# Altium integrated library Linear Technology Power Management LDO Linear Regulators.IntLib: 2339 symbols (part 107 of 131)
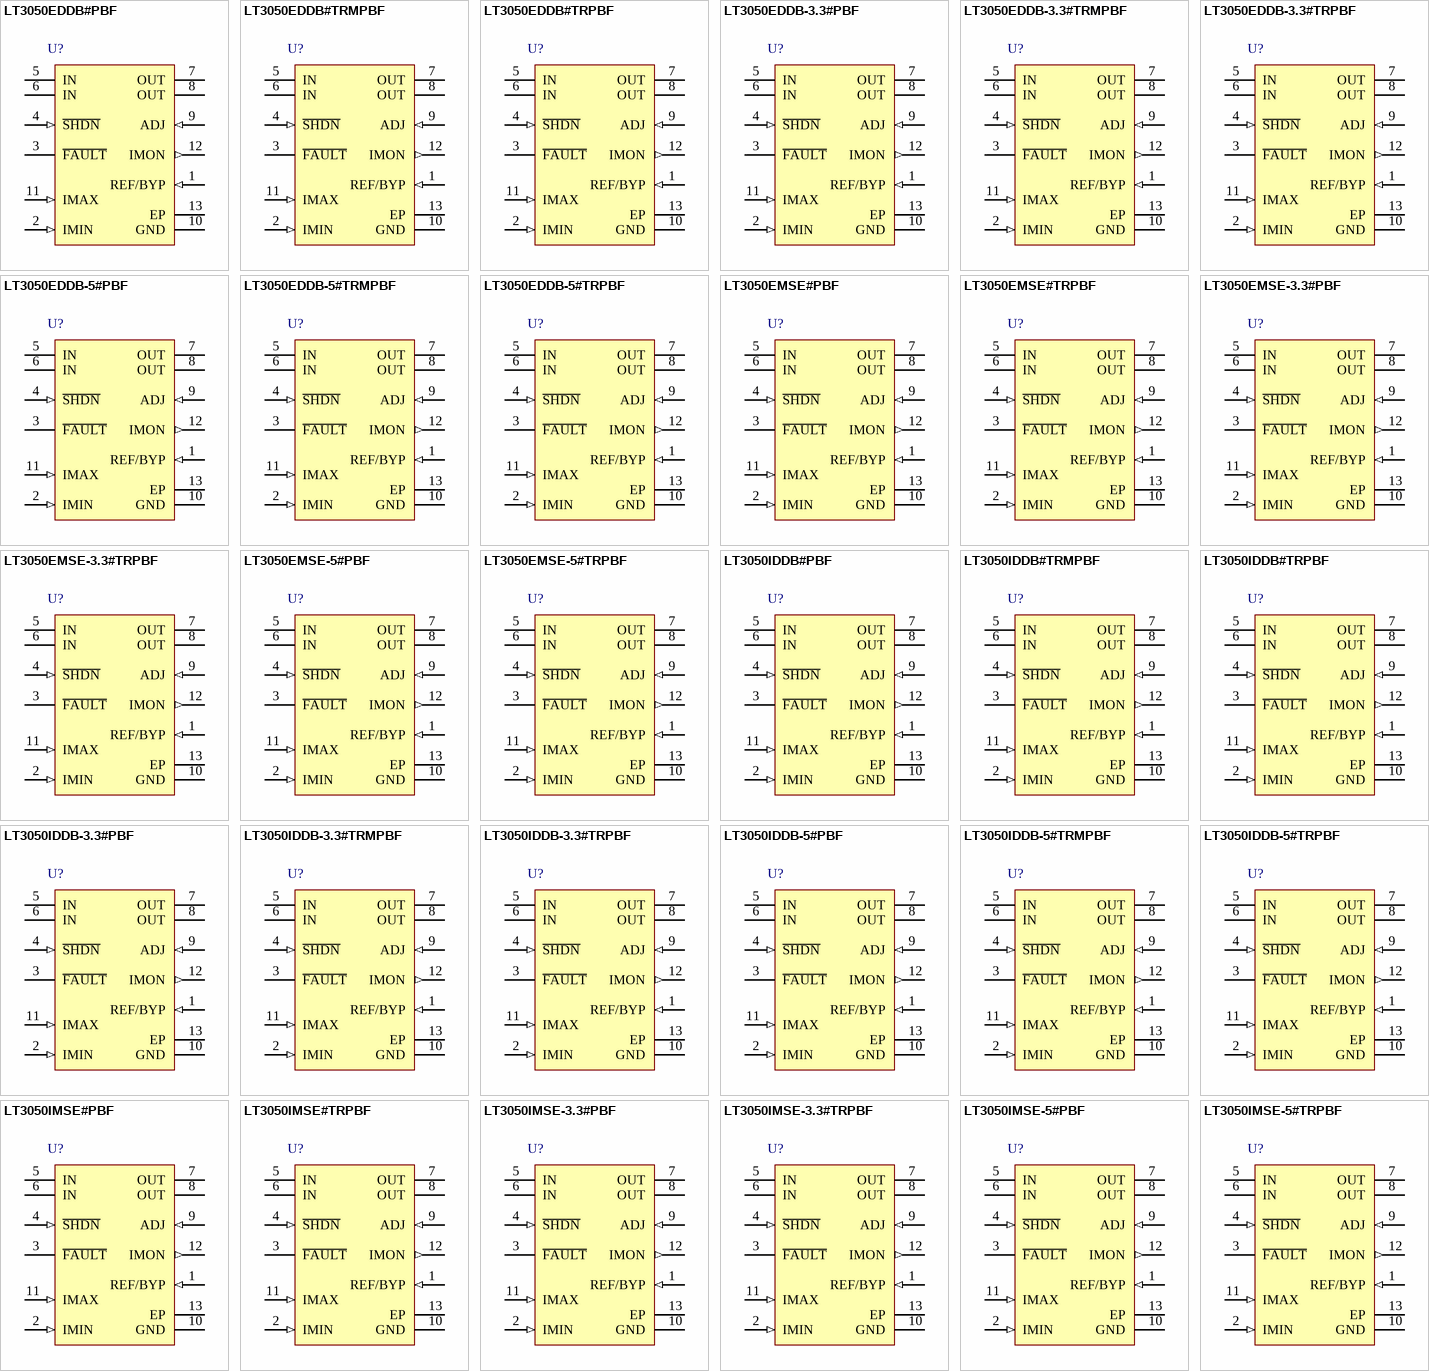
[diagram p175: symbols LT3050EDDB#PBF to LT3050IMSE-5#TRPBF]

## LT3050IDDB-3.3#TRPBF
designator U?
100 mA, Low Noise Linear Regulator with Precision Current Limit and Diagnostic Functions, 1.6 to 45 V Vin, 3.3 V Vout, 12-pin SON (DDB-12), -40 to 125 degC, Pb-Free, Tape and Reel; Manufacturer: Linear Technology; PartNumber: LT3050IDDB-3.3#TRPBF; Discrete Pass Element: no; Dropout Voltage(V): 0.34; Iout(mA): 100; Isupply(mA): 0.045; Noise(uV): 30; Number of Outputs: 1; Output Voltage: 3.3 V; PSRR(dB): 70; Shutdown Current(uA): 0.17; Vin Max(V): 45; Vin Min(V): 1.6; DatasheetVersion: Rev. A; PackageVersion: Rev. Ø, 06/2010; PackageReference: DDB-12; PackageDescription: 12-Pin Plastic DFN, Body 3 x 2 mm, Pitch 0.45 mm; Supplier 1: Digi-Key; Supplier Part Number 1: LT3050IDDB-3.3#TRPBF-ND; Packing: Tape and Reel; RoHS: TRUE; Mounting Technology: Surface Mount; ComponentLink1Description: Manufacturer URL; ComponentLink1URL: http://www.linear.com/; ComponentLink2Description: Datasheet; ComponentLink2URL: http://cds.linear.com/docs/en/datasheet/3050fa.pdf; ComponentLink3Description: Package Specification; ComponentLink3URL: http://cds.linear.com/docs/en/packaging/DFN_12_05-08-1723.pdf
footprint LT-DDB-12_V (SON, 12-Leads, Body 3x2mm, Pitch 0.45mm, Thermal Pad 2.39x0.64mm)
pins: 1 REF/BYP (in), 2 IMIN (in) "Minimum Output Current Programming Pin. This pin is the collector of a PNP current mirror that outputs 1/200th of the power PNP load current. This pin is also the input to the minimum output current fault comparator. (See Datasheet)", 3 ~{FAULT} (oc) "F\a\u\l\t\ Pin. This is an open collector logic pin which asserts during current limit, thermal limit or a minimum current fault condition. The maximum low logic output level is defined for sinking 100uA of current. Off (See Datasheet)", 4 ~{SHDN} (in), 5 IN (power) "Input. These pins supply power to the device. The LT3050 requires a local IN bypass capacitor if it is located more than six inches from the main input fi lter capacitor. In general, battery output impedance rises with (See Datasheet)", 6 IN (power) "Input. These pins supply power to the device. The LT3050 requires a local IN bypass capacitor if it is located more than six inches from the main input fi lter capacitor. In general, battery output impedance rises with (See Datasheet)", 7 OUT (power) "Output. These pins supply power to the load. Stability requirements demand a minimum 2.2uF ceramic output capacitor to prevent oscillations. Large load transient applications require larger output capacitors to limit peak (See Datasheet)", 8 OUT (power) "Output. These pins supply power to the load. Stability requirements demand a minimum 2.2uF ceramic output capacitor to prevent oscillations. Large load transient applications require larger output capacitors to limit peak (See Datasheet)", 9 ADJ (in) "Adjust. This pin is the error amplifier’s inverting terminal. Its typical bias of 16nA current flows out of the pin (see curve of ADJ Pin Bias Current vs. Temperature in the Typical Performance Characteristics section)(See Datasheet)", 10 GND (power) "Ground. The exposed pad of the DFN and MSOP packages is an electrical connection to GND. To ensure proper electrical and thermal performance, solder Pin 13 to the PCB ground and tie directly to Pin 10. Connect the bottom of (See Datasheet)", 11 IMAX (in) "Precision Current Limit Programming Pin.", 12 IMON (out) "Output Current Monitor. This pin is the collector of a PNP current mirror that outputs 1/100th of the power PNP current. When OUT = IMON, the pin current exactly equals 1/100th that of the output current. For detailed (See Datasheet)", 13 EP (power) "Ground. The exposed pad of the DFN and MSOP packages is an electrical connection to GND. To ensure proper electrical and thermal performance, solder Pin 13 to the PCB ground and tie directly to Pin 10. Connect the bottom of (See Datasheet)"

## LT3050IDDB-5#PBF
designator U?
100 mA, Low Noise Linear Regulator with Precision Current Limit and Diagnostic Functions, 1.6 to 45 V Vin, 5 V Vout, 12-pin SON (DDB-12), -40 to 125 degC, Pb-Free; Manufacturer: Linear Technology; PartNumber: LT3050IDDB-5#PBF; Discrete Pass Element: no; Dropout Voltage(V): 0.34; Iout(mA): 100; Isupply(mA): 0.045; Noise(uV): 30; Number of Outputs: 1; Output Voltage: 5 V; PSRR(dB): 66; Shutdown Current(uA): 0.17; Vin Max(V): 45; Vin Min(V): 1.6; DatasheetVersion: Rev. A; PackageVersion: Rev. Ø, 06/2010; PackageReference: DDB-12; PackageDescription: 12-Pin Plastic DFN, Body 3 x 2 mm, Pitch 0.45 mm; RoHS: TRUE; Mounting Technology: Surface Mount; ComponentLink1Description: Manufacturer URL; ComponentLink1URL: http://www.linear.com/; ComponentLink2Description: Datasheet; ComponentLink2URL: http://cds.linear.com/docs/en/datasheet/3050fa.pdf; ComponentLink3Description: Package Specification; ComponentLink3URL: http://cds.linear.com/docs/en/packaging/DFN_12_05-08-1723.pdf
footprint LT-DDB-12_V (SON, 12-Leads, Body 3x2mm, Pitch 0.45mm, Thermal Pad 2.39x0.64mm)
pins: 1 REF/BYP (in), 2 IMIN (in) "Minimum Output Current Programming Pin. This pin is the collector of a PNP current mirror that outputs 1/200th of the power PNP load current. This pin is also the input to the minimum output current fault comparator. (See Datasheet)", 3 ~{FAULT} (oc) "F\a\u\l\t\ Pin. This is an open collector logic pin which asserts during current limit, thermal limit or a minimum current fault condition. The maximum low logic output level is defined for sinking 100uA of current. Off (See Datasheet)", 4 ~{SHDN} (in), 5 IN (power) "Input. These pins supply power to the device. The LT3050 requires a local IN bypass capacitor if it is located more than six inches from the main input fi lter capacitor. In general, battery output impedance rises with (See Datasheet)", 6 IN (power) "Input. These pins supply power to the device. The LT3050 requires a local IN bypass capacitor if it is located more than six inches from the main input fi lter capacitor. In general, battery output impedance rises with (See Datasheet)", 7 OUT (power) "Output. These pins supply power to the load. Stability requirements demand a minimum 2.2uF ceramic output capacitor to prevent oscillations. Large load transient applications require larger output capacitors to limit peak (See Datasheet)", 8 OUT (power) "Output. These pins supply power to the load. Stability requirements demand a minimum 2.2uF ceramic output capacitor to prevent oscillations. Large load transient applications require larger output capacitors to limit peak (See Datasheet)", 9 ADJ (in) "Adjust. This pin is the error amplifier’s inverting terminal. Its typical bias of 16nA current flows out of the pin (see curve of ADJ Pin Bias Current vs. Temperature in the Typical Performance Characteristics section)(See Datasheet)", 10 GND (power) "Ground. The exposed pad of the DFN and MSOP packages is an electrical connection to GND. To ensure proper electrical and thermal performance, solder Pin 13 to the PCB ground and tie directly to Pin 10. Connect the bottom of (See Datasheet)", 11 IMAX (in) "Precision Current Limit Programming Pin.", 12 IMON (out) "Output Current Monitor. This pin is the collector of a PNP current mirror that outputs 1/100th of the power PNP current. When OUT = IMON, the pin current exactly equals 1/100th that of the output current. For detailed (See Datasheet)", 13 EP (power) "Ground. The exposed pad of the DFN and MSOP packages is an electrical connection to GND. To ensure proper electrical and thermal performance, solder Pin 13 to the PCB ground and tie directly to Pin 10. Connect the bottom of (See Datasheet)"

## LT3050IDDB-5#TRMPBF
designator U?
100 mA, Low Noise Linear Regulator with Precision Current Limit and Diagnostic Functions, 1.6 to 45 V Vin, 5 V Vout, 12-pin SON (DDB-12), -40 to 125 degC, Pb-Free, Mini Tape and Reel; Manufacturer: Linear Technology; PartNumber: LT3050IDDB-5#TRMPBF; Discrete Pass Element: no; Dropout Voltage(V): 0.34; Iout(mA): 100; Isupply(mA): 0.045; Noise(uV): 30; Number of Outputs: 1; Output Voltage: 5 V; PSRR(dB): 66; Shutdown Current(uA): 0.17; Vin Max(V): 45; Vin Min(V): 1.6; DatasheetVersion: Rev. A; PackageVersion: Rev. Ø, 06/2010; PackageReference: DDB-12; PackageDescription: 12-Pin Plastic DFN, Body 3 x 2 mm, Pitch 0.45 mm; Supplier 1: Digi-Key; Supplier Part Number 1: LT3050IDDB-5#TRMPBF-ND; Packing: Mini Tape and Reel; RoHS: TRUE; Mounting Technology: Surface Mount; ComponentLink1Description: Manufacturer URL; ComponentLink1URL: http://www.linear.com/; ComponentLink2Description: Datasheet; ComponentLink2URL: http://cds.linear.com/docs/en/datasheet/3050fa.pdf; ComponentLink3Description: Package Specification; ComponentLink3URL: http://cds.linear.com/docs/en/packaging/DFN_12_05-08-1723.pdf
footprint LT-DDB-12_V (SON, 12-Leads, Body 3x2mm, Pitch 0.45mm, Thermal Pad 2.39x0.64mm)
pins: 1 REF/BYP (in), 2 IMIN (in) "Minimum Output Current Programming Pin. This pin is the collector of a PNP current mirror that outputs 1/200th of the power PNP load current. This pin is also the input to the minimum output current fault comparator. (See Datasheet)", 3 ~{FAULT} (oc) "F\a\u\l\t\ Pin. This is an open collector logic pin which asserts during current limit, thermal limit or a minimum current fault condition. The maximum low logic output level is defined for sinking 100uA of current. Off (See Datasheet)", 4 ~{SHDN} (in), 5 IN (power) "Input. These pins supply power to the device. The LT3050 requires a local IN bypass capacitor if it is located more than six inches from the main input fi lter capacitor. In general, battery output impedance rises with (See Datasheet)", 6 IN (power) "Input. These pins supply power to the device. The LT3050 requires a local IN bypass capacitor if it is located more than six inches from the main input fi lter capacitor. In general, battery output impedance rises with (See Datasheet)", 7 OUT (power) "Output. These pins supply power to the load. Stability requirements demand a minimum 2.2uF ceramic output capacitor to prevent oscillations. Large load transient applications require larger output capacitors to limit peak (See Datasheet)", 8 OUT (power) "Output. These pins supply power to the load. Stability requirements demand a minimum 2.2uF ceramic output capacitor to prevent oscillations. Large load transient applications require larger output capacitors to limit peak (See Datasheet)", 9 ADJ (in) "Adjust. This pin is the error amplifier’s inverting terminal. Its typical bias of 16nA current flows out of the pin (see curve of ADJ Pin Bias Current vs. Temperature in the Typical Performance Characteristics section)(See Datasheet)", 10 GND (power) "Ground. The exposed pad of the DFN and MSOP packages is an electrical connection to GND. To ensure proper electrical and thermal performance, solder Pin 13 to the PCB ground and tie directly to Pin 10. Connect the bottom of (See Datasheet)", 11 IMAX (in) "Precision Current Limit Programming Pin.", 12 IMON (out) "Output Current Monitor. This pin is the collector of a PNP current mirror that outputs 1/100th of the power PNP current. When OUT = IMON, the pin current exactly equals 1/100th that of the output current. For detailed (See Datasheet)", 13 EP (power) "Ground. The exposed pad of the DFN and MSOP packages is an electrical connection to GND. To ensure proper electrical and thermal performance, solder Pin 13 to the PCB ground and tie directly to Pin 10. Connect the bottom of (See Datasheet)"

## LT3050IDDB-5#TRPBF
designator U?
100 mA, Low Noise Linear Regulator with Precision Current Limit and Diagnostic Functions, 1.6 to 45 V Vin, 5 V Vout, 12-pin SON (DDB-12), -40 to 125 degC, Pb-Free, Tape and Reel; Manufacturer: Linear Technology; PartNumber: LT3050IDDB-5#TRPBF; Discrete Pass Element: no; Dropout Voltage(V): 0.34; Iout(mA): 100; Isupply(mA): 0.045; Noise(uV): 30; Number of Outputs: 1; Output Voltage: 5 V; PSRR(dB): 66; Shutdown Current(uA): 0.17; Vin Max(V): 45; Vin Min(V): 1.6; DatasheetVersion: Rev. A; PackageVersion: Rev. Ø, 06/2010; PackageReference: DDB-12; PackageDescription: 12-Pin Plastic DFN, Body 3 x 2 mm, Pitch 0.45 mm; Supplier 1: Digi-Key; Supplier Part Number 1: LT3050IDDB-5#TRPBF-ND; Packing: Tape and Reel; RoHS: TRUE; Mounting Technology: Surface Mount; ComponentLink1Description: Manufacturer URL; ComponentLink1URL: http://www.linear.com/; ComponentLink2Description: Datasheet; ComponentLink2URL: http://cds.linear.com/docs/en/datasheet/3050fa.pdf; ComponentLink3Description: Package Specification; ComponentLink3URL: http://cds.linear.com/docs/en/packaging/DFN_12_05-08-1723.pdf
footprint LT-DDB-12_V (SON, 12-Leads, Body 3x2mm, Pitch 0.45mm, Thermal Pad 2.39x0.64mm)
pins: 1 REF/BYP (in), 2 IMIN (in) "Minimum Output Current Programming Pin. This pin is the collector of a PNP current mirror that outputs 1/200th of the power PNP load current. This pin is also the input to the minimum output current fault comparator. (See Datasheet)", 3 ~{FAULT} (oc) "F\a\u\l\t\ Pin. This is an open collector logic pin which asserts during current limit, thermal limit or a minimum current fault condition. The maximum low logic output level is defined for sinking 100uA of current. Off (See Datasheet)", 4 ~{SHDN} (in), 5 IN (power) "Input. These pins supply power to the device. The LT3050 requires a local IN bypass capacitor if it is located more than six inches from the main input fi lter capacitor. In general, battery output impedance rises with (See Datasheet)", 6 IN (power) "Input. These pins supply power to the device. The LT3050 requires a local IN bypass capacitor if it is located more than six inches from the main input fi lter capacitor. In general, battery output impedance rises with (See Datasheet)", 7 OUT (power) "Output. These pins supply power to the load. Stability requirements demand a minimum 2.2uF ceramic output capacitor to prevent oscillations. Large load transient applications require larger output capacitors to limit peak (See Datasheet)", 8 OUT (power) "Output. These pins supply power to the load. Stability requirements demand a minimum 2.2uF ceramic output capacitor to prevent oscillations. Large load transient applications require larger output capacitors to limit peak (See Datasheet)", 9 ADJ (in) "Adjust. This pin is the error amplifier’s inverting terminal. Its typical bias of 16nA current flows out of the pin (see curve of ADJ Pin Bias Current vs. Temperature in the Typical Performance Characteristics section)(See Datasheet)", 10 GND (power) "Ground. The exposed pad of the DFN and MSOP packages is an electrical connection to GND. To ensure proper electrical and thermal performance, solder Pin 13 to the PCB ground and tie directly to Pin 10. Connect the bottom of (See Datasheet)", 11 IMAX (in) "Precision Current Limit Programming Pin.", 12 IMON (out) "Output Current Monitor. This pin is the collector of a PNP current mirror that outputs 1/100th of the power PNP current. When OUT = IMON, the pin current exactly equals 1/100th that of the output current. For detailed (See Datasheet)", 13 EP (power) "Ground. The exposed pad of the DFN and MSOP packages is an electrical connection to GND. To ensure proper electrical and thermal performance, solder Pin 13 to the PCB ground and tie directly to Pin 10. Connect the bottom of (See Datasheet)"

## LT3050IMSE#PBF
designator U?
100 mA, Low Noise Linear Regulator with Precision Current Limit and Diagnostic Functions, 1.6 to 45 V Vin, Adjustable Vout, 12-pin SOP (MSE-12-EDP), -40 to 125 degC, Pb-Free; Manufacturer: Linear Technology; PartNumber: LT3050IMSE#PBF; Discrete Pass Element: no; Dropout Voltage(V): 0.34; Iout(mA): 100; Isupply(mA): 0.045; Noise(uV): 30; Number of Outputs: 1; Output Voltage: Adj; PSRR(dB): 85; Shutdown Current(uA): 0.17; Vin Max(V): 45; Vin Min(V): 1.6; Vout Max(V): 44.5; Vout Min(V): 0.6; DatasheetVersion: Rev. A; PackageVersion: Rev. G, 05/2013; PackageReference: MSE-12-EDP; PackageDescription: 12-Pin Plastic MSOP, Exposed Die Pad, Body 4.039 x 3 mm, Pitch 0.65 mm; Supplier 1: Digi-Key; Supplier Part Number 1: LT3050IMSE#PBF-ND; Supplier 2: Farnell; Supplier Part Number 2: 2295266; Supplier 3: Newark; Supplier Part Number 3: 63R6833; RoHS: TRUE; Mounting Technology: Surface Mount; ComponentLink1Description: Manufacturer URL; ComponentLink1URL: http://www.linear.com/; ComponentLink2Description: Datasheet; ComponentLink2URL: http://cds.linear.com/docs/en/datasheet/3050fa.pdf; ComponentLink3Description: Package Specification; ComponentLink3URL: http://cds.linear.com/docs/en/packaging/05081666_G_MSE12.pdf
footprint LT-MSE-12-EDP_N (SOP, 12-Leads, Body 4.039x3mm, Pitch 0.65mm, Thermal Pad 2.95x1.76mm, IPC Medium Density)
footprint LT-MSE-12-EDP_L (SOP, 12-Leads, Body 4.039x3mm, Pitch 0.65mm, Thermal Pad 2.95x1.76mm, IPC High Density)
footprint LT-MSE-12-EDP_M (SOP, 12-Leads, Body 4.039x3mm, Pitch 0.65mm, Thermal Pad 2.95x1.76mm, IPC Low Density)
pins: 1 REF/BYP (in), 2 IMIN (in) "Minimum Output Current Programming Pin. This pin is the collector of a PNP current mirror that outputs 1/200th of the power PNP load current. This pin is also the input to the minimum output current fault comparator. (See Datasheet)", 3 ~{FAULT} (oc) "F\a\u\l\t\ Pin. This is an open collector logic pin which asserts during current limit, thermal limit or a minimum current fault condition. The maximum low logic output level is defined for sinking 100uA of current. Off (See Datasheet)", 4 ~{SHDN} (in), 5 IN (power) "Input. These pins supply power to the device. The LT3050 requires a local IN bypass capacitor if it is located more than six inches from the main input fi lter capacitor. In general, battery output impedance rises with (See Datasheet)", 6 IN (power) "Input. These pins supply power to the device. The LT3050 requires a local IN bypass capacitor if it is located more than six inches from the main input fi lter capacitor. In general, battery output impedance rises with (See Datasheet)", 7 OUT (power) "Output. These pins supply power to the load. Stability requirements demand a minimum 2.2uF ceramic output capacitor to prevent oscillations. Large load transient applications require larger output capacitors to limit peak (See Datasheet)", 8 OUT (power) "Output. These pins supply power to the load. Stability requirements demand a minimum 2.2uF ceramic output capacitor to prevent oscillations. Large load transient applications require larger output capacitors to limit peak (See Datasheet)", 9 ADJ (in) "Adjust. This pin is the error amplifier’s inverting terminal. Its typical bias of 16nA current flows out of the pin (see curve of ADJ Pin Bias Current vs. Temperature in the Typical Performance Characteristics section)(See Datasheet)", 10 GND (power) "Ground. The exposed pad of the DFN and MSOP packages is an electrical connection to GND. To ensure proper electrical and thermal performance, solder Pin 13 to the PCB ground and tie directly to Pin 10. Connect the bottom of (See Datasheet)", 11 IMAX (in) "Precision Current Limit Programming Pin.", 12 IMON (out) "Output Current Monitor. This pin is the collector of a PNP current mirror that outputs 1/100th of the power PNP current. When OUT = IMON, the pin current exactly equals 1/100th that of the output current. For detailed (See Datasheet)", 13 EP (power) "Ground. The exposed pad of the DFN and MSOP packages is an electrical connection to GND. To ensure proper electrical and thermal performance, solder Pin 13 to the PCB ground and tie directly to Pin 10. Connect the bottom of (See Datasheet)"

## LT3050IMSE#TRPBF
designator U?
100 mA, Low Noise Linear Regulator with Precision Current Limit and Diagnostic Functions, 1.6 to 45 V Vin, Adjustable Vout, 12-pin SOP (MSE-12-EDP), -40 to 125 degC, Pb-Free, Tape and Reel; Manufacturer: Linear Technology; PartNumber: LT3050IMSE#TRPBF; Discrete Pass Element: no; Dropout Voltage(V): 0.34; Iout(mA): 100; Isupply(mA): 0.045; Noise(uV): 30; Number of Outputs: 1; Output Voltage: Adj; PSRR(dB): 85; Shutdown Current(uA): 0.17; Vin Max(V): 45; Vin Min(V): 1.6; Vout Max(V): 44.5; Vout Min(V): 0.6; DatasheetVersion: Rev. A; PackageVersion: Rev. G, 05/2013; PackageReference: MSE-12-EDP; PackageDescription: 12-Pin Plastic MSOP, Exposed Die Pad, Body 4.039 x 3 mm, Pitch 0.65 mm; Supplier 1: Digi-Key; Supplier Part Number 1: LT3050IMSE#TRPBF-ND; Supplier 2: Newark; Supplier Part Number 2: 63R6834; Packing: Tape and Reel; RoHS: TRUE; Mounting Technology: Surface Mount; ComponentLink1Description: Manufacturer URL; ComponentLink1URL: http://www.linear.com/; ComponentLink2Description: Datasheet; ComponentLink2URL: http://cds.linear.com/docs/en/datasheet/3050fa.pdf; ComponentLink3Description: Package Specification; ComponentLink3URL: http://cds.linear.com/docs/en/packaging/05081666_G_MSE12.pdf
footprint LT-MSE-12-EDP_N (SOP, 12-Leads, Body 4.039x3mm, Pitch 0.65mm, Thermal Pad 2.95x1.76mm, IPC Medium Density)
footprint LT-MSE-12-EDP_L (SOP, 12-Leads, Body 4.039x3mm, Pitch 0.65mm, Thermal Pad 2.95x1.76mm, IPC High Density)
footprint LT-MSE-12-EDP_M (SOP, 12-Leads, Body 4.039x3mm, Pitch 0.65mm, Thermal Pad 2.95x1.76mm, IPC Low Density)
pins: 1 REF/BYP (in), 2 IMIN (in) "Minimum Output Current Programming Pin. This pin is the collector of a PNP current mirror that outputs 1/200th of the power PNP load current. This pin is also the input to the minimum output current fault comparator. (See Datasheet)", 3 ~{FAULT} (oc) "F\a\u\l\t\ Pin. This is an open collector logic pin which asserts during current limit, thermal limit or a minimum current fault condition. The maximum low logic output level is defined for sinking 100uA of current. Off (See Datasheet)", 4 ~{SHDN} (in), 5 IN (power) "Input. These pins supply power to the device. The LT3050 requires a local IN bypass capacitor if it is located more than six inches from the main input fi lter capacitor. In general, battery output impedance rises with (See Datasheet)", 6 IN (power) "Input. These pins supply power to the device. The LT3050 requires a local IN bypass capacitor if it is located more than six inches from the main input fi lter capacitor. In general, battery output impedance rises with (See Datasheet)", 7 OUT (power) "Output. These pins supply power to the load. Stability requirements demand a minimum 2.2uF ceramic output capacitor to prevent oscillations. Large load transient applications require larger output capacitors to limit peak (See Datasheet)", 8 OUT (power) "Output. These pins supply power to the load. Stability requirements demand a minimum 2.2uF ceramic output capacitor to prevent oscillations. Large load transient applications require larger output capacitors to limit peak (See Datasheet)", 9 ADJ (in) "Adjust. This pin is the error amplifier’s inverting terminal. Its typical bias of 16nA current flows out of the pin (see curve of ADJ Pin Bias Current vs. Temperature in the Typical Performance Characteristics section)(See Datasheet)", 10 GND (power) "Ground. The exposed pad of the DFN and MSOP packages is an electrical connection to GND. To ensure proper electrical and thermal performance, solder Pin 13 to the PCB ground and tie directly to Pin 10. Connect the bottom of (See Datasheet)", 11 IMAX (in) "Precision Current Limit Programming Pin.", 12 IMON (out) "Output Current Monitor. This pin is the collector of a PNP current mirror that outputs 1/100th of the power PNP current. When OUT = IMON, the pin current exactly equals 1/100th that of the output current. For detailed (See Datasheet)", 13 EP (power) "Ground. The exposed pad of the DFN and MSOP packages is an electrical connection to GND. To ensure proper electrical and thermal performance, solder Pin 13 to the PCB ground and tie directly to Pin 10. Connect the bottom of (See Datasheet)"

## LT3050IMSE-3.3#PBF
designator U?
100 mA, Low Noise Linear Regulator with Precision Current Limit and Diagnostic Functions, 1.6 to 45 V Vin, 3.3 V Vout, 12-pin SOP (MSE-12-EDP), -40 to 125 degC, Pb-Free; Manufacturer: Linear Technology; PartNumber: LT3050IMSE-3.3#PBF; Discrete Pass Element: no; Dropout Voltage(V): 0.34; Iout(mA): 100; Isupply(mA): 0.045; Noise(uV): 30; Number of Outputs: 1; Output Voltage: 3.3 V; PSRR(dB): 70; Shutdown Current(uA): 0.17; Vin Max(V): 45; Vin Min(V): 1.6; DatasheetVersion: Rev. A; PackageVersion: Rev. G, 05/2013; PackageReference: MSE-12-EDP; PackageDescription: 12-Pin Plastic MSOP, Exposed Die Pad, Body 4.039 x 3 mm, Pitch 0.65 mm; Supplier 1: Digi-Key; Supplier Part Number 1: LT3050IMSE-3.3#PBF-ND; RoHS: TRUE; Mounting Technology: Surface Mount; ComponentLink1Description: Manufacturer URL; ComponentLink1URL: http://www.linear.com/; ComponentLink2Description: Datasheet; ComponentLink2URL: http://cds.linear.com/docs/en/datasheet/3050fa.pdf; ComponentLink3Description: Package Specification; ComponentLink3URL: http://cds.linear.com/docs/en/packaging/05081666_G_MSE12.pdf
footprint LT-MSE-12-EDP_N (SOP, 12-Leads, Body 4.039x3mm, Pitch 0.65mm, Thermal Pad 2.95x1.76mm, IPC Medium Density)
footprint LT-MSE-12-EDP_L (SOP, 12-Leads, Body 4.039x3mm, Pitch 0.65mm, Thermal Pad 2.95x1.76mm, IPC High Density)
footprint LT-MSE-12-EDP_M (SOP, 12-Leads, Body 4.039x3mm, Pitch 0.65mm, Thermal Pad 2.95x1.76mm, IPC Low Density)
pins: 1 REF/BYP (in), 2 IMIN (in) "Minimum Output Current Programming Pin. This pin is the collector of a PNP current mirror that outputs 1/200th of the power PNP load current. This pin is also the input to the minimum output current fault comparator. (See Datasheet)", 3 ~{FAULT} (oc) "F\a\u\l\t\ Pin. This is an open collector logic pin which asserts during current limit, thermal limit or a minimum current fault condition. The maximum low logic output level is defined for sinking 100uA of current. Off (See Datasheet)", 4 ~{SHDN} (in), 5 IN (power) "Input. These pins supply power to the device. The LT3050 requires a local IN bypass capacitor if it is located more than six inches from the main input fi lter capacitor. In general, battery output impedance rises with (See Datasheet)", 6 IN (power) "Input. These pins supply power to the device. The LT3050 requires a local IN bypass capacitor if it is located more than six inches from the main input fi lter capacitor. In general, battery output impedance rises with (See Datasheet)", 7 OUT (power) "Output. These pins supply power to the load. Stability requirements demand a minimum 2.2uF ceramic output capacitor to prevent oscillations. Large load transient applications require larger output capacitors to limit peak (See Datasheet)", 8 OUT (power) "Output. These pins supply power to the load. Stability requirements demand a minimum 2.2uF ceramic output capacitor to prevent oscillations. Large load transient applications require larger output capacitors to limit peak (See Datasheet)", 9 ADJ (in) "Adjust. This pin is the error amplifier’s inverting terminal. Its typical bias of 16nA current flows out of the pin (see curve of ADJ Pin Bias Current vs. Temperature in the Typical Performance Characteristics section)(See Datasheet)", 10 GND (power) "Ground. The exposed pad of the DFN and MSOP packages is an electrical connection to GND. To ensure proper electrical and thermal performance, solder Pin 13 to the PCB ground and tie directly to Pin 10. Connect the bottom of (See Datasheet)", 11 IMAX (in) "Precision Current Limit Programming Pin.", 12 IMON (out) "Output Current Monitor. This pin is the collector of a PNP current mirror that outputs 1/100th of the power PNP current. When OUT = IMON, the pin current exactly equals 1/100th that of the output current. For detailed (See Datasheet)", 13 EP (power) "Ground. The exposed pad of the DFN and MSOP packages is an electrical connection to GND. To ensure proper electrical and thermal performance, solder Pin 13 to the PCB ground and tie directly to Pin 10. Connect the bottom of (See Datasheet)"

## LT3050IMSE-3.3#TRPBF
designator U?
100 mA, Low Noise Linear Regulator with Precision Current Limit and Diagnostic Functions, 1.6 to 45 V Vin, 3.3 V Vout, 12-pin SOP (MSE-12-EDP), -40 to 125 degC, Pb-Free, Tape and Reel; Manufacturer: Linear Technology; PartNumber: LT3050IMSE-3.3#TRPBF; Discrete Pass Element: no; Dropout Voltage(V): 0.34; Iout(mA): 100; Isupply(mA): 0.045; Noise(uV): 30; Number of Outputs: 1; Output Voltage: 3.3 V; PSRR(dB): 70; Shutdown Current(uA): 0.17; Vin Max(V): 45; Vin Min(V): 1.6; DatasheetVersion: Rev. A; PackageVersion: Rev. G, 05/2013; PackageReference: MSE-12-EDP; PackageDescription: 12-Pin Plastic MSOP, Exposed Die Pad, Body 4.039 x 3 mm, Pitch 0.65 mm; Supplier 1: Digi-Key; Supplier Part Number 1: LT3050IMSE-3.3#TRPBF-ND; Packing: Tape and Reel; RoHS: TRUE; Mounting Technology: Surface Mount; ComponentLink1Description: Manufacturer URL; ComponentLink1URL: http://www.linear.com/; ComponentLink2Description: Datasheet; ComponentLink2URL: http://cds.linear.com/docs/en/datasheet/3050fa.pdf; ComponentLink3Description: Package Specification; ComponentLink3URL: http://cds.linear.com/docs/en/packaging/05081666_G_MSE12.pdf
footprint LT-MSE-12-EDP_N (SOP, 12-Leads, Body 4.039x3mm, Pitch 0.65mm, Thermal Pad 2.95x1.76mm, IPC Medium Density)
footprint LT-MSE-12-EDP_L (SOP, 12-Leads, Body 4.039x3mm, Pitch 0.65mm, Thermal Pad 2.95x1.76mm, IPC High Density)
footprint LT-MSE-12-EDP_M (SOP, 12-Leads, Body 4.039x3mm, Pitch 0.65mm, Thermal Pad 2.95x1.76mm, IPC Low Density)
pins: 1 REF/BYP (in), 2 IMIN (in) "Minimum Output Current Programming Pin. This pin is the collector of a PNP current mirror that outputs 1/200th of the power PNP load current. This pin is also the input to the minimum output current fault comparator. (See Datasheet)", 3 ~{FAULT} (oc) "F\a\u\l\t\ Pin. This is an open collector logic pin which asserts during current limit, thermal limit or a minimum current fault condition. The maximum low logic output level is defined for sinking 100uA of current. Off (See Datasheet)", 4 ~{SHDN} (in), 5 IN (power) "Input. These pins supply power to the device. The LT3050 requires a local IN bypass capacitor if it is located more than six inches from the main input fi lter capacitor. In general, battery output impedance rises with (See Datasheet)", 6 IN (power) "Input. These pins supply power to the device. The LT3050 requires a local IN bypass capacitor if it is located more than six inches from the main input fi lter capacitor. In general, battery output impedance rises with (See Datasheet)", 7 OUT (power) "Output. These pins supply power to the load. Stability requirements demand a minimum 2.2uF ceramic output capacitor to prevent oscillations. Large load transient applications require larger output capacitors to limit peak (See Datasheet)", 8 OUT (power) "Output. These pins supply power to the load. Stability requirements demand a minimum 2.2uF ceramic output capacitor to prevent oscillations. Large load transient applications require larger output capacitors to limit peak (See Datasheet)", 9 ADJ (in) "Adjust. This pin is the error amplifier’s inverting terminal. Its typical bias of 16nA current flows out of the pin (see curve of ADJ Pin Bias Current vs. Temperature in the Typical Performance Characteristics section)(See Datasheet)", 10 GND (power) "Ground. The exposed pad of the DFN and MSOP packages is an electrical connection to GND. To ensure proper electrical and thermal performance, solder Pin 13 to the PCB ground and tie directly to Pin 10. Connect the bottom of (See Datasheet)", 11 IMAX (in) "Precision Current Limit Programming Pin.", 12 IMON (out) "Output Current Monitor. This pin is the collector of a PNP current mirror that outputs 1/100th of the power PNP current. When OUT = IMON, the pin current exactly equals 1/100th that of the output current. For detailed (See Datasheet)", 13 EP (power) "Ground. The exposed pad of the DFN and MSOP packages is an electrical connection to GND. To ensure proper electrical and thermal performance, solder Pin 13 to the PCB ground and tie directly to Pin 10. Connect the bottom of (See Datasheet)"

## LT3050IMSE-5#PBF
designator U?
100 mA, Low Noise Linear Regulator with Precision Current Limit and Diagnostic Functions, 1.6 to 45 V Vin, 5 V Vout, 12-pin SOP (MSE-12-EDP), -40 to 125 degC, Pb-Free; Manufacturer: Linear Technology; PartNumber: LT3050IMSE-5#PBF; Discrete Pass Element: no; Dropout Voltage(V): 0.34; Iout(mA): 100; Isupply(mA): 0.045; Noise(uV): 30; Number of Outputs: 1; Output Voltage: 5 V; PSRR(dB): 66; Shutdown Current(uA): 0.17; Vin Max(V): 45; Vin Min(V): 1.6; DatasheetVersion: Rev. A; PackageVersion: Rev. G, 05/2013; PackageReference: MSE-12-EDP; PackageDescription: 12-Pin Plastic MSOP, Exposed Die Pad, Body 4.039 x 3 mm, Pitch 0.65 mm; Supplier 1: Digi-Key; Supplier Part Number 1: LT3050IMSE-5#PBF-ND; RoHS: TRUE; Mounting Technology: Surface Mount; ComponentLink1Description: Manufacturer URL; ComponentLink1URL: http://www.linear.com/; ComponentLink2Description: Datasheet; ComponentLink2URL: http://cds.linear.com/docs/en/datasheet/3050fa.pdf; ComponentLink3Description: Package Specification; ComponentLink3URL: http://cds.linear.com/docs/en/packaging/05081666_G_MSE12.pdf
footprint LT-MSE-12-EDP_N (SOP, 12-Leads, Body 4.039x3mm, Pitch 0.65mm, Thermal Pad 2.95x1.76mm, IPC Medium Density)
footprint LT-MSE-12-EDP_L (SOP, 12-Leads, Body 4.039x3mm, Pitch 0.65mm, Thermal Pad 2.95x1.76mm, IPC High Density)
footprint LT-MSE-12-EDP_M (SOP, 12-Leads, Body 4.039x3mm, Pitch 0.65mm, Thermal Pad 2.95x1.76mm, IPC Low Density)
pins: 1 REF/BYP (in), 2 IMIN (in) "Minimum Output Current Programming Pin. This pin is the collector of a PNP current mirror that outputs 1/200th of the power PNP load current. This pin is also the input to the minimum output current fault comparator. (See Datasheet)", 3 ~{FAULT} (oc) "F\a\u\l\t\ Pin. This is an open collector logic pin which asserts during current limit, thermal limit or a minimum current fault condition. The maximum low logic output level is defined for sinking 100uA of current. Off (See Datasheet)", 4 ~{SHDN} (in), 5 IN (power) "Input. These pins supply power to the device. The LT3050 requires a local IN bypass capacitor if it is located more than six inches from the main input fi lter capacitor. In general, battery output impedance rises with (See Datasheet)", 6 IN (power) "Input. These pins supply power to the device. The LT3050 requires a local IN bypass capacitor if it is located more than six inches from the main input fi lter capacitor. In general, battery output impedance rises with (See Datasheet)", 7 OUT (power) "Output. These pins supply power to the load. Stability requirements demand a minimum 2.2uF ceramic output capacitor to prevent oscillations. Large load transient applications require larger output capacitors to limit peak (See Datasheet)", 8 OUT (power) "Output. These pins supply power to the load. Stability requirements demand a minimum 2.2uF ceramic output capacitor to prevent oscillations. Large load transient applications require larger output capacitors to limit peak (See Datasheet)", 9 ADJ (in) "Adjust. This pin is the error amplifier’s inverting terminal. Its typical bias of 16nA current flows out of the pin (see curve of ADJ Pin Bias Current vs. Temperature in the Typical Performance Characteristics section)(See Datasheet)", 10 GND (power) "Ground. The exposed pad of the DFN and MSOP packages is an electrical connection to GND. To ensure proper electrical and thermal performance, solder Pin 13 to the PCB ground and tie directly to Pin 10. Connect the bottom of (See Datasheet)", 11 IMAX (in) "Precision Current Limit Programming Pin.", 12 IMON (out) "Output Current Monitor. This pin is the collector of a PNP current mirror that outputs 1/100th of the power PNP current. When OUT = IMON, the pin current exactly equals 1/100th that of the output current. For detailed (See Datasheet)", 13 EP (power) "Ground. The exposed pad of the DFN and MSOP packages is an electrical connection to GND. To ensure proper electrical and thermal performance, solder Pin 13 to the PCB ground and tie directly to Pin 10. Connect the bottom of (See Datasheet)"

## LT3050IMSE-5#TRPBF
designator U?
100 mA, Low Noise Linear Regulator with Precision Current Limit and Diagnostic Functions, 1.6 to 45 V Vin, 5 V Vout, 12-pin SOP (MSE-12-EDP), -40 to 125 degC, Pb-Free, Tape and Reel; Manufacturer: Linear Technology; PartNumber: LT3050IMSE-5#TRPBF; Discrete Pass Element: no; Dropout Voltage(V): 0.34; Iout(mA): 100; Isupply(mA): 0.045; Noise(uV): 30; Number of Outputs: 1; Output Voltage: 5 V; PSRR(dB): 66; Shutdown Current(uA): 0.17; Vin Max(V): 45; Vin Min(V): 1.6; DatasheetVersion: Rev. A; PackageVersion: Rev. G, 05/2013; PackageReference: MSE-12-EDP; PackageDescription: 12-Pin Plastic MSOP, Exposed Die Pad, Body 4.039 x 3 mm, Pitch 0.65 mm; Supplier 1: Digi-Key; Supplier Part Number 1: LT3050IMSE-5#TRPBF-ND; Packing: Tape and Reel; RoHS: TRUE; Mounting Technology: Surface Mount; ComponentLink1Description: Manufacturer URL; ComponentLink1URL: http://www.linear.com/; ComponentLink2Description: Datasheet; ComponentLink2URL: http://cds.linear.com/docs/en/datasheet/3050fa.pdf; ComponentLink3Description: Package Specification; ComponentLink3URL: http://cds.linear.com/docs/en/packaging/05081666_G_MSE12.pdf
footprint LT-MSE-12-EDP_N (SOP, 12-Leads, Body 4.039x3mm, Pitch 0.65mm, Thermal Pad 2.95x1.76mm, IPC Medium Density)
footprint LT-MSE-12-EDP_L (SOP, 12-Leads, Body 4.039x3mm, Pitch 0.65mm, Thermal Pad 2.95x1.76mm, IPC High Density)
footprint LT-MSE-12-EDP_M (SOP, 12-Leads, Body 4.039x3mm, Pitch 0.65mm, Thermal Pad 2.95x1.76mm, IPC Low Density)
pins: 1 REF/BYP (in), 2 IMIN (in) "Minimum Output Current Programming Pin. This pin is the collector of a PNP current mirror that outputs 1/200th of the power PNP load current. This pin is also the input to the minimum output current fault comparator. (See Datasheet)", 3 ~{FAULT} (oc) "F\a\u\l\t\ Pin. This is an open collector logic pin which asserts during current limit, thermal limit or a minimum current fault condition. The maximum low logic output level is defined for sinking 100uA of current. Off (See Datasheet)", 4 ~{SHDN} (in), 5 IN (power) "Input. These pins supply power to the device. The LT3050 requires a local IN bypass capacitor if it is located more than six inches from the main input fi lter capacitor. In general, battery output impedance rises with (See Datasheet)", 6 IN (power) "Input. These pins supply power to the device. The LT3050 requires a local IN bypass capacitor if it is located more than six inches from the main input fi lter capacitor. In general, battery output impedance rises with (See Datasheet)", 7 OUT (power) "Output. These pins supply power to the load. Stability requirements demand a minimum 2.2uF ceramic output capacitor to prevent oscillations. Large load transient applications require larger output capacitors to limit peak (See Datasheet)", 8 OUT (power) "Output. These pins supply power to the load. Stability requirements demand a minimum 2.2uF ceramic output capacitor to prevent oscillations. Large load transient applications require larger output capacitors to limit peak (See Datasheet)", 9 ADJ (in) "Adjust. This pin is the error amplifier’s inverting terminal. Its typical bias of 16nA current flows out of the pin (see curve of ADJ Pin Bias Current vs. Temperature in the Typical Performance Characteristics section)(See Datasheet)", 10 GND (power) "Ground. The exposed pad of the DFN and MSOP packages is an electrical connection to GND. To ensure proper electrical and thermal performance, solder Pin 13 to the PCB ground and tie directly to Pin 10. Connect the bottom of (See Datasheet)", 11 IMAX (in) "Precision Current Limit Programming Pin.", 12 IMON (out) "Output Current Monitor. This pin is the collector of a PNP current mirror that outputs 1/100th of the power PNP current. When OUT = IMON, the pin current exactly equals 1/100th that of the output current. For detailed (See Datasheet)", 13 EP (power) "Ground. The exposed pad of the DFN and MSOP packages is an electrical connection to GND. To ensure proper electrical and thermal performance, solder Pin 13 to the PCB ground and tie directly to Pin 10. Connect the bottom of (See Datasheet)"

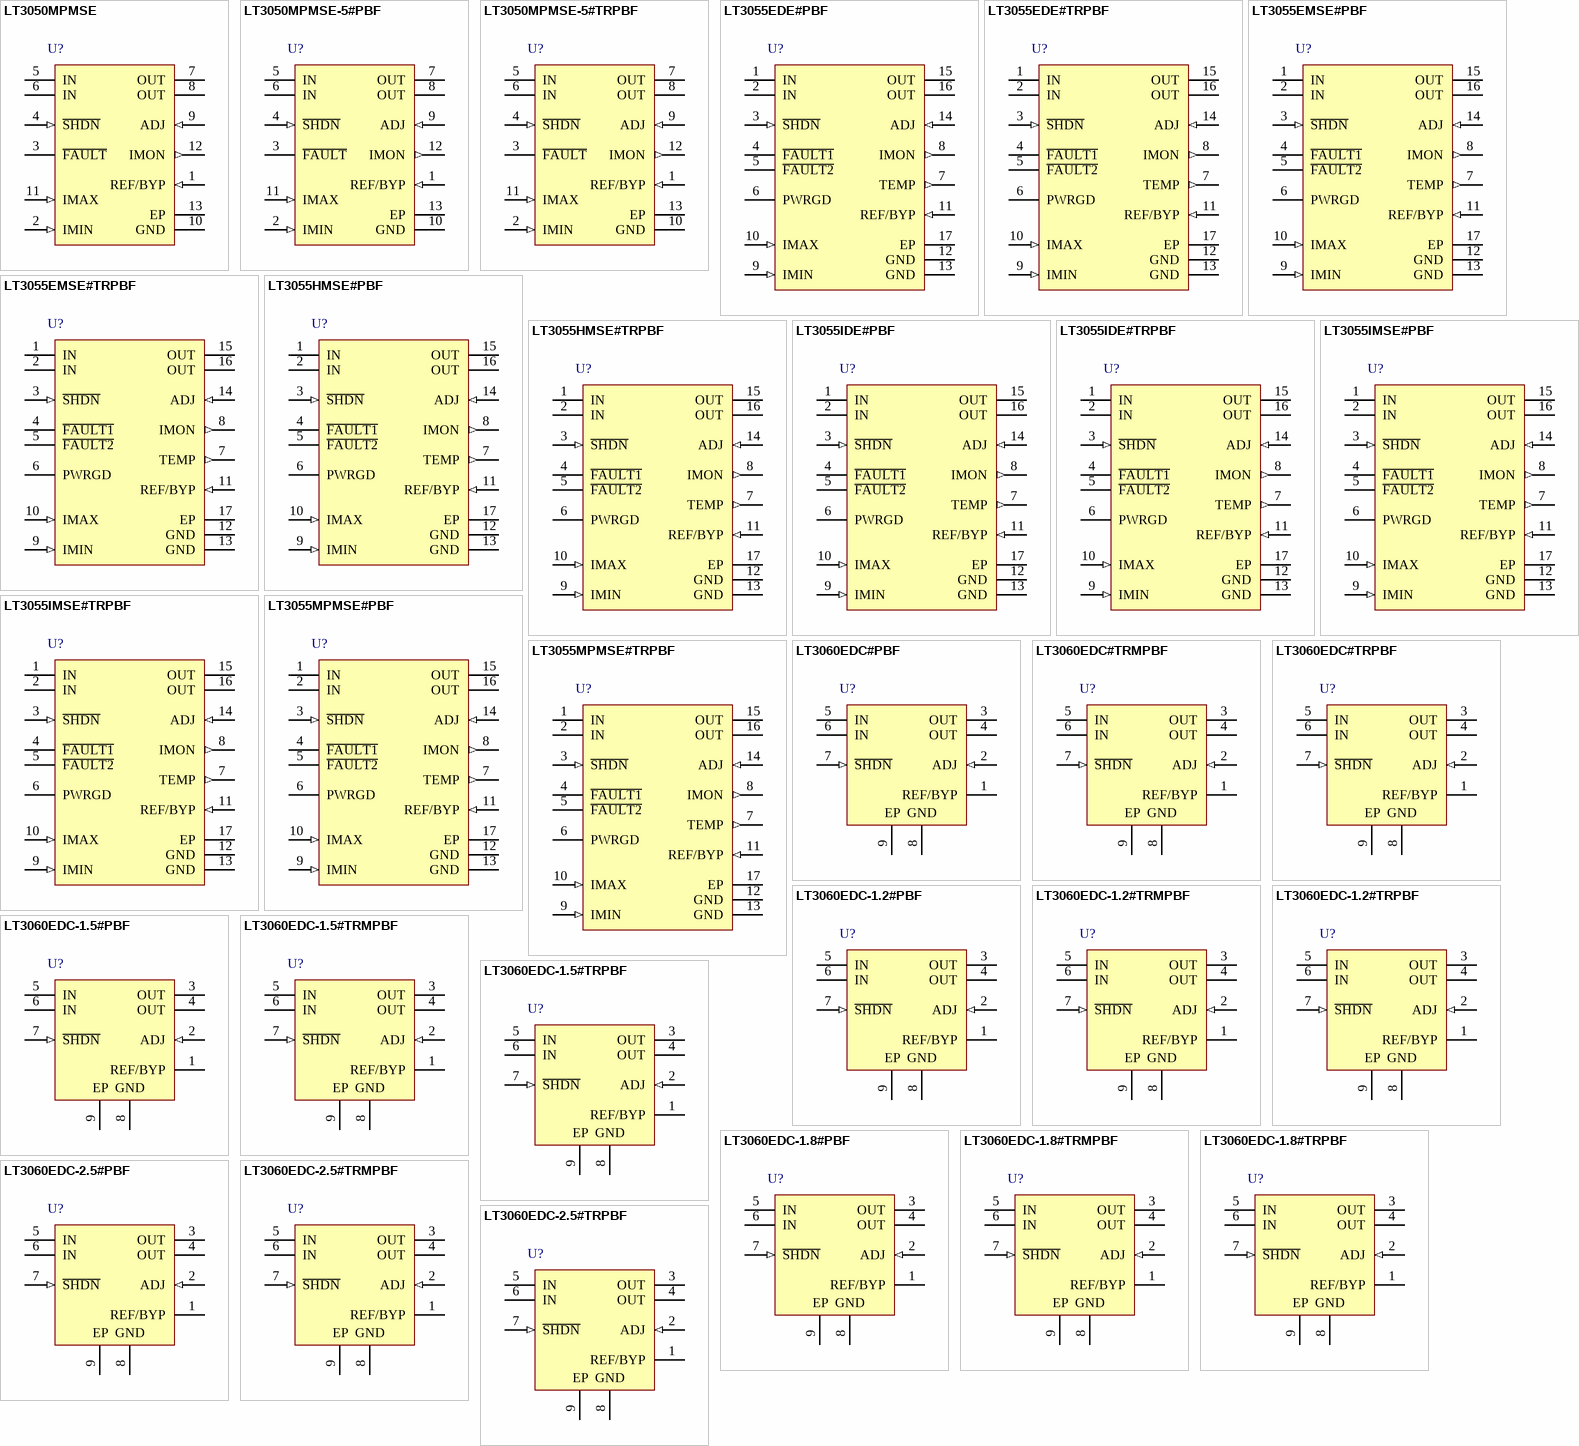
[diagram p60: symbols LT3050MPMSE to LT3060EDC-2.5#TRPBF]

## LT3050MPMSE
designator U?
100 mA, Low Noise Linear Regulator with Precision Current Limit and Diagnostic Functions, 1.6 to 45 V Vin, Adjustable Vout, 12-pin SOP (MSE-12-EDP), -55 to 125 degC; Manufacturer: Linear Technology; PartNumber: LT3050MPMSE; Discrete Pass Element: no; Dropout Voltage(V): 0.34; Iout(mA): 100; Isupply(mA): 0.045; Noise(uV): 30; Number of Outputs: 1; Output Voltage: Adj; PSRR(dB): 85; Shutdown Current(uA): 0.17; Vin Max(V): 45; Vin Min(V): 1.6; Vout Max(V): 44.5; Vout Min(V): 0.6; DatasheetVersion: Rev. A; PackageVersion: Rev. G, 05/2013; PackageReference: MSE-12-EDP; PackageDescription: 12-Pin Plastic MSOP, Exposed Die Pad, Body 4.039 x 3 mm, Pitch 0.65 mm; RoHS: FALSE; Mounting Technology: Surface Mount; ComponentLink1Description: Manufacturer URL; ComponentLink1URL: http://www.linear.com/; ComponentLink2Description: Datasheet; ComponentLink2URL: http://cds.linear.com/docs/en/datasheet/3050fa.pdf; ComponentLink3Description: Package Specification; ComponentLink3URL: http://cds.linear.com/docs/en/packaging/05081666_G_MSE12.pdf
footprint LT-MSE-12-EDP_N (SOP, 12-Leads, Body 4.039x3mm, Pitch 0.65mm, Thermal Pad 2.95x1.76mm, IPC Medium Density)
footprint LT-MSE-12-EDP_L (SOP, 12-Leads, Body 4.039x3mm, Pitch 0.65mm, Thermal Pad 2.95x1.76mm, IPC High Density)
footprint LT-MSE-12-EDP_M (SOP, 12-Leads, Body 4.039x3mm, Pitch 0.65mm, Thermal Pad 2.95x1.76mm, IPC Low Density)
pins: 1 REF/BYP (in), 2 IMIN (in) "Minimum Output Current Programming Pin. This pin is the collector of a PNP current mirror that outputs 1/200th of the power PNP load current. This pin is also the input to the minimum output current fault comparator. (See Datasheet)", 3 ~{FAULT} (oc) "F\a\u\l\t\ Pin. This is an open collector logic pin which asserts during current limit, thermal limit or a minimum current fault condition. The maximum low logic output level is defined for sinking 100uA of current. Off (See Datasheet)", 4 ~{SHDN} (in), 5 IN (power) "Input. These pins supply power to the device. The LT3050 requires a local IN bypass capacitor if it is located more than six inches from the main input fi lter capacitor. In general, battery output impedance rises with (See Datasheet)", 6 IN (power) "Input. These pins supply power to the device. The LT3050 requires a local IN bypass capacitor if it is located more than six inches from the main input fi lter capacitor. In general, battery output impedance rises with (See Datasheet)", 7 OUT (power) "Output. These pins supply power to the load. Stability requirements demand a minimum 2.2uF ceramic output capacitor to prevent oscillations. Large load transient applications require larger output capacitors to limit peak (See Datasheet)", 8 OUT (power) "Output. These pins supply power to the load. Stability requirements demand a minimum 2.2uF ceramic output capacitor to prevent oscillations. Large load transient applications require larger output capacitors to limit peak (See Datasheet)", 9 ADJ (in) "Adjust. This pin is the error amplifier’s inverting terminal. Its typical bias of 16nA current flows out of the pin (see curve of ADJ Pin Bias Current vs. Temperature in the Typical Performance Characteristics section)(See Datasheet)", 10 GND (power) "Ground. The exposed pad of the DFN and MSOP packages is an electrical connection to GND. To ensure proper electrical and thermal performance, solder Pin 13 to the PCB ground and tie directly to Pin 10. Connect the bottom of (See Datasheet)", 11 IMAX (in) "Precision Current Limit Programming Pin.", 12 IMON (out) "Output Current Monitor. This pin is the collector of a PNP current mirror that outputs 1/100th of the power PNP current. When OUT = IMON, the pin current exactly equals 1/100th that of the output current. For detailed (See Datasheet)", 13 EP (power) "Ground. The exposed pad of the DFN and MSOP packages is an electrical connection to GND. To ensure proper electrical and thermal performance, solder Pin 13 to the PCB ground and tie directly to Pin 10. Connect the bottom of (See Datasheet)"

## LT3050MPMSE-5#PBF
designator U?
100 mA, Low Noise Linear Regulator with Precision Current Limit and Diagnostic Functions, 1.6 to 45 V Vin, 5 V Vout, 12-pin SOP (MSE-12-EDP), -55 to 125 degC, Pb-Free; Manufacturer: Linear Technology; PartNumber: LT3050MPMSE-5#PBF; Discrete Pass Element: no; Dropout Voltage(V): 0.34; Iout(mA): 100; Isupply(mA): 0.045; Noise(uV): 30; Number of Outputs: 1; Output Voltage: 5 V; PSRR(dB): 66; Shutdown Current(uA): 0.17; Vin Max(V): 45; Vin Min(V): 1.6; DatasheetVersion: Rev. A; PackageVersion: Rev. G, 05/2013; PackageReference: MSE-12-EDP; PackageDescription: 12-Pin Plastic MSOP, Exposed Die Pad, Body 4.039 x 3 mm, Pitch 0.65 mm; Supplier 1: Digi-Key; Supplier Part Number 1: LT3050MPMSE-5#PBF-ND; Supplier 2: Farnell; Supplier Part Number 2: 1833000; Supplier 3: Newark; Supplier Part Number 3: 78R8449; RoHS: TRUE; Mounting Technology: Surface Mount; ComponentLink1Description: Manufacturer URL; ComponentLink1URL: http://www.linear.com/; ComponentLink2Description: Datasheet; ComponentLink2URL: http://cds.linear.com/docs/en/datasheet/3050fa.pdf; ComponentLink3Description: Package Specification; ComponentLink3URL: http://cds.linear.com/docs/en/packaging/05081666_G_MSE12.pdf
footprint LT-MSE-12-EDP_N (SOP, 12-Leads, Body 4.039x3mm, Pitch 0.65mm, Thermal Pad 2.95x1.76mm, IPC Medium Density)
footprint LT-MSE-12-EDP_L (SOP, 12-Leads, Body 4.039x3mm, Pitch 0.65mm, Thermal Pad 2.95x1.76mm, IPC High Density)
footprint LT-MSE-12-EDP_M (SOP, 12-Leads, Body 4.039x3mm, Pitch 0.65mm, Thermal Pad 2.95x1.76mm, IPC Low Density)
pins: 1 REF/BYP (in), 2 IMIN (in) "Minimum Output Current Programming Pin. This pin is the collector of a PNP current mirror that outputs 1/200th of the power PNP load current. This pin is also the input to the minimum output current fault comparator. (See Datasheet)", 3 ~{FAULT} (oc) "F\a\u\l\t\ Pin. This is an open collector logic pin which asserts during current limit, thermal limit or a minimum current fault condition. The maximum low logic output level is defined for sinking 100uA of current. Off (See Datasheet)", 4 ~{SHDN} (in), 5 IN (power) "Input. These pins supply power to the device. The LT3050 requires a local IN bypass capacitor if it is located more than six inches from the main input fi lter capacitor. In general, battery output impedance rises with (See Datasheet)", 6 IN (power) "Input. These pins supply power to the device. The LT3050 requires a local IN bypass capacitor if it is located more than six inches from the main input fi lter capacitor. In general, battery output impedance rises with (See Datasheet)", 7 OUT (power) "Output. These pins supply power to the load. Stability requirements demand a minimum 2.2uF ceramic output capacitor to prevent oscillations. Large load transient applications require larger output capacitors to limit peak (See Datasheet)", 8 OUT (power) "Output. These pins supply power to the load. Stability requirements demand a minimum 2.2uF ceramic output capacitor to prevent oscillations. Large load transient applications require larger output capacitors to limit peak (See Datasheet)", 9 ADJ (in) "Adjust. This pin is the error amplifier’s inverting terminal. Its typical bias of 16nA current flows out of the pin (see curve of ADJ Pin Bias Current vs. Temperature in the Typical Performance Characteristics section)(See Datasheet)", 10 GND (power) "Ground. The exposed pad of the DFN and MSOP packages is an electrical connection to GND. To ensure proper electrical and thermal performance, solder Pin 13 to the PCB ground and tie directly to Pin 10. Connect the bottom of (See Datasheet)", 11 IMAX (in) "Precision Current Limit Programming Pin.", 12 IMON (out) "Output Current Monitor. This pin is the collector of a PNP current mirror that outputs 1/100th of the power PNP current. When OUT = IMON, the pin current exactly equals 1/100th that of the output current. For detailed (See Datasheet)", 13 EP (power) "Ground. The exposed pad of the DFN and MSOP packages is an electrical connection to GND. To ensure proper electrical and thermal performance, solder Pin 13 to the PCB ground and tie directly to Pin 10. Connect the bottom of (See Datasheet)"